# EAGLE library part 2.0MM-6PZZ (library CONNECTORs)
1x6P 6P PH 1 Tin 2mm 2mm 6 -25℃~+85℃ Brass 1A Straight Plugin,P=2mm Wire To Board / Wire To Wire Connector ROHS
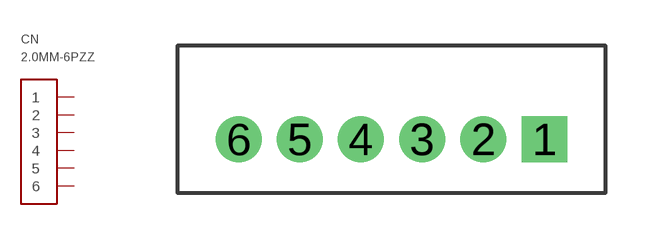
[diagram p93: symbol with the pads of PH-6P-V-TH; footprint PH-6P-V-TH]

Designator prefix CN

## 2.0MM-6PZZ (HEIGHT: 6.1; LCSC: C5368728; PRICE_PER: 0.128; VALUE: JST GH 6P V-TH)  [PH-6P-V-TH]
1  1
2  2
3  3
4  4
5  5
6  6

## Footprint PH-6P-V-TH (pad centres in mm)
drill 0.7 pad 1.5 square: 1 5,-0.65
drill 0.7 pad 1.5: 2 3,-0.65; 3 1,-0.65; 4 -1,-0.65; 5 -3,-0.65; 6 -5,-0.65